# EAGLE library part XC3S250E_VQ100 (library CEDTv75)
Xilinx Spartan 3E FPGA
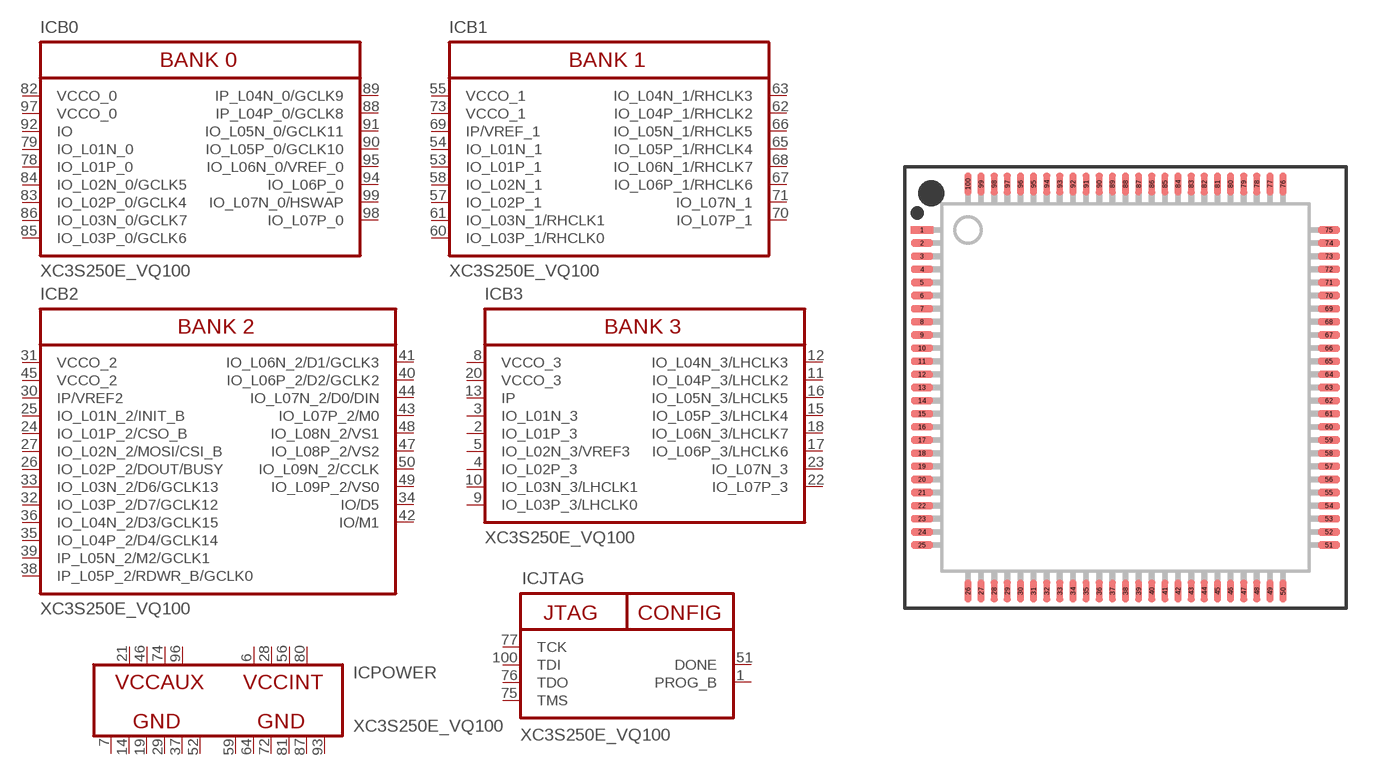
[diagram p65: symbol with the pads of VQ100; footprint VQ100]

Designator prefix IC; gates B0=XC100VQ100BANK0 B1=XC100VQ100BANK1 B2=XC100VQ100BANK2 B3=XC100VQ100BANK3 JTAG=XC100VQ100JTAG POWER=XC100VQ100POWER

## XC3S250E_VQ100-VQ100  [VQ100]
1  JTAG:PROG_B  pas
2  B3:IO_L01P_3  pas
3  B3:IO_L01N_3  pas
4  B3:IO_L02P_3  pas
5  B3:IO_L02N_3/VREF3  pas
6  POWER:VCCINT  pas
7  POWER:GND  pas
8  B3:VCCO_3  pas
9  B3:IO_L03P_3/LHCLK0  pas
10  B3:IO_L03N_3/LHCLK1  pas
11  B3:IO_L04P_3/LHCLK2  pas
12  B3:IO_L04N_3/LHCLK3  pas
13  B3:IP  pas
14  POWER:GND  pas
15  B3:IO_L05P_3/LHCLK4  pas
16  B3:IO_L05N_3/LHCLK5  pas
17  B3:IO_L06P_3/LHCLK6  pas
18  B3:IO_L06N_3/LHCLK7  pas
19  POWER:GND  pas
20  B3:VCCO_3  pas
21  POWER:VCCAUX  pas
22  B3:IO_L07P_3  pas
23  B3:IO_L07N_3  pas
24  B2:IO_L01P_2/CSO_B  pas
25  B2:IO_L01N_2/INIT_B  pas
26  B2:IO_L02P_2/DOUT/BUSY  pas
27  B2:IO_L02N_2/MOSI/CSI_B  pas
28  POWER:VCCINT  pas
29  POWER:GND  pas
30  B2:IP/VREF2  pas
31  B2:VCCO_2  pas
32  B2:IO_L03P_2/D7/GCLK12  pas
33  B2:IO_L03N_2/D6/GCLK13  pas
34  B2:IO/D5  pas
35  B2:IO_L04P_2/D4/GCLK14  pas
36  B2:IO_L04N_2/D3/GCLK15  pas
37  POWER:GND  pas
38  B2:IP_L05P_2/RDWR_B/GCLK0  pas
39  B2:IP_L05N_2/M2/GCLK1  pas
40  B2:IO_L06P_2/D2/GCLK2  pas
41  B2:IO_L06N_2/D1/GCLK3  pas
42  B2:IO/M1  pas
43  B2:IO_L07P_2/M0  pas
44  B2:IO_L07N_2/D0/DIN  pas
45  B2:VCCO_2  pas
46  POWER:VCCAUX  pas
47  B2:IO_L08P_2/VS2  pas
48  B2:IO_L08N_2/VS1  pas
49  B2:IO_L09P_2/VS0  pas
50  B2:IO_L09N_2/CCLK  pas
51  JTAG:DONE  pas
52  POWER:GND  pas
53  B1:IO_L01P_1  pas
54  B1:IO_L01N_1  pas
55  B1:VCCO_1  pas
56  POWER:VCCINT  pas
57  B1:IO_L02P_1  pas
58  B1:IO_L02N_1  pas
59  POWER:GND  pas
60  B1:IO_L03P_1/RHCLK0  pas
61  B1:IO_L03N_1/RHCLK1  pas
62  B1:IO_L04P_1/RHCLK2  pas
63  B1:IO_L04N_1/RHCLK3  pas
64  POWER:GND  pas
65  B1:IO_L05P_1/RHCLK4  pas
66  B1:IO_L05N_1/RHCLK5  pas
67  B1:IO_L06P_1/RHCLK6  pas
68  B1:IO_L06N_1/RHCLK7  pas
69  B1:IP/VREF_1  pas
70  B1:IO_L07P_1  pas
71  B1:IO_L07N_1  pas
72  POWER:GND  pas
73  B1:VCCO_1  pas
74  POWER:VCCAUX  pas
75  JTAG:TMS  pas
76  JTAG:TDO  pas
77  JTAG:TCK  pas
78  B0:IO_L01P_0  pas
79  B0:IO_L01N_0  pas
80  POWER:VCCINT  pas
81  POWER:GND  pas
82  B0:VCCO_0  pas
83  B0:IO_L02P_0/GCLK4  pas
84  B0:IO_L02N_0/GCLK5  pas
85  B0:IO_L03P_0/GCLK6  pas
86  B0:IO_L03N_0/GCLK7  pas
87  POWER:GND  pas
88  B0:IP_L04P_0/GCLK8  pas
89  B0:IP_L04N_0/GCLK9  pas
90  B0:IO_L05P_0/GCLK10  pas
91  B0:IO_L05N_0/GCLK11  pas
92  B0:IO  pas
93  POWER:GND  pas
94  B0:IO_L06P_0  pas
95  B0:IO_L06N_0/VREF_0  pas
96  POWER:VCCAUX  pwr
97  B0:VCCO_0  pas
98  B0:IO_L07P_0  pas
99  B0:IO_L07N_0/HSWAP  pas
100  JTAG:TDI  pas

## Footprint VQ100 (pad centres in mm)
Very-thin Quad Flat Package
smd 0.85 x 0.28: 1 -7.75,6; 2 -7.75,5.5; 3 -7.75,5; 4 -7.75,4.5; 5 -7.75,4; 6 -7.75,3.5; 7 -7.75,3; 8 -7.75,2.5; 9 -7.75,2; 10 -7.75,1.5; 11 -7.75,1; 12 -7.75,0.5; 13 -7.75,0; 14 -7.75,-0.5; 15 -7.75,-1; 16 -7.75,-1.5; 17 -7.75,-2; 18 -7.75,-2.5; 19 -7.75,-3; 20 -7.75,-3.5; 21 -7.75,-4; 22 -7.75,-4.5; 23 -7.75,-5; 24 -7.75,-5.5; 25 -7.75,-6; 51 7.75,-6; 52 7.75,-5.5; 53 7.75,-5; 54 7.75,-4.5; 55 7.75,-4; 56 7.75,-3.5; 57 7.75,-3; 58 7.75,-2.5; 59 7.75,-2; 60 7.75,-1.5; 61 7.75,-1; 62 7.75,-0.5; 63 7.75,0; 64 7.75,0.5; 65 7.75,1; 66 7.75,1.5; 67 7.75,2; 68 7.75,2.5; 69 7.75,3; 70 7.75,3.5; 71 7.75,4; 72 7.75,4.5; 73 7.75,5; 74 7.75,5.5; 75 7.75,6
smd 0.28 x 0.85: 26 -6,-7.75; 27 -5.5,-7.75; 28 -5,-7.75; 29 -4.5,-7.75; 30 -4,-7.75; 31 -3.5,-7.75; 32 -3,-7.75; 33 -2.5,-7.75; 34 -2,-7.75; 35 -1.5,-7.75; 36 -1,-7.75; 37 -0.5,-7.75; 38 0,-7.75; 39 0.5,-7.75; 40 1,-7.75; 41 1.5,-7.75; 42 2,-7.75; 43 2.5,-7.75; 44 3,-7.75; 45 3.5,-7.75; 46 4,-7.75; 47 4.5,-7.75; 48 5,-7.75; 49 5.5,-7.75; 50 6,-7.75; 76 6,7.75; 77 5.5,7.75; 78 5,7.75; 79 4.5,7.75; 80 4,7.75; 81 3.5,7.75; 82 3,7.75; 83 2.5,7.75; 84 2,7.75; 85 1.5,7.75; 86 1,7.75; 87 0.5,7.75; 88 0,7.75; 89 -0.5,7.75; 90 -1,7.75; 91 -1.5,7.75; 92 -2,7.75; 93 -2.5,7.75; 94 -3,7.75; 95 -3.5,7.75; 96 -4,7.75; 97 -4.5,7.75; 98 -5,7.75; 99 -5.5,7.75; 100 -6,7.75